# EAGLE library part TCS32X0 (library BEEP)
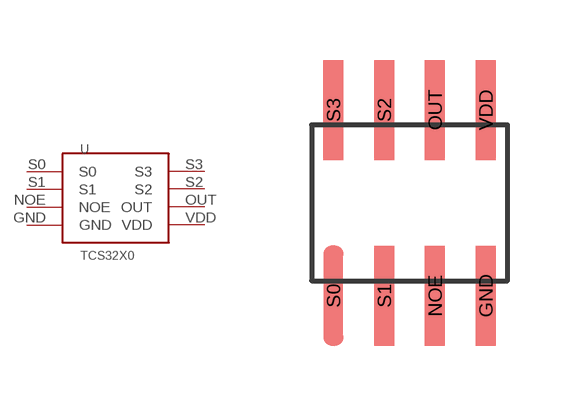
[diagram p4: symbol with the pads of TCS32X0; footprint TCS32X0]

Designator prefix -

## TCS32X0  [TCS32X0]
GND  GND  pwr
NOE  NOE  out
OUT  OUT  out
S0  S0  in
S1  S1  in
S2  S2  in
S3  S3  in
VDD  VDD  pwr

## Footprint TCS32X0 (pad centres in mm)
smd 0.5 x 2.5: GND 1.905,-2.325; NOE 0.635,-2.325; OUT 0.635,2.325; S0 -1.905,-2.325; S1 -0.635,-2.325; S2 -0.635,2.325; S3 -1.905,2.325; VDD 1.905,2.325